# Altium schematic symbol library LM2678SX-5.0_NOPB.SchLib: 1 symbol
Pins are listed as number, name and electrical type; pins without a type are passive.

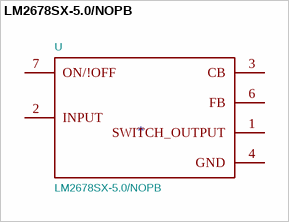
[diagram p0: symbol LM2678SX-5.0/NOPB]

## LM2678SX-5.0/NOPB
designator U  value LM2678SX-5.0/NOPB
Parameter_4: SIMPLE SWITCHER 8V to 40V, 5A High Efficiency Step-Down DC/DC Switching Regulator 7-DDPAK/TO-263 -40 to 125; Parameter_5: None; Parameter_6: Unavailable; Parameter_7: Texas Instruments; Footprint: TO127P1435X464-7; Supplier: TO-263-7 Texas Instruments; Parameter_8: LM2678SX-5.0/NOPB
footprint TO127P1435X464-7
pins: 1 SWITCH_OUTPUT, 2 INPUT, 3 CB, 4 GND, 6 FB, 7 ON/!OFF